# Altium footprint library pcb_mk32_dsd_2022-03-23.PcbLib: 35 footprints (part 1 of 3)
Each footprint in its own frame and in the unit in brackets; x right, y up, seen from the top. Pads: shape width x height; smd on the part's side, far side on the other; paste and mask are expansions set on the pad; w line width, h text height; cw(c..) or ccw(c..) is an arc to the next point about the centre after c.
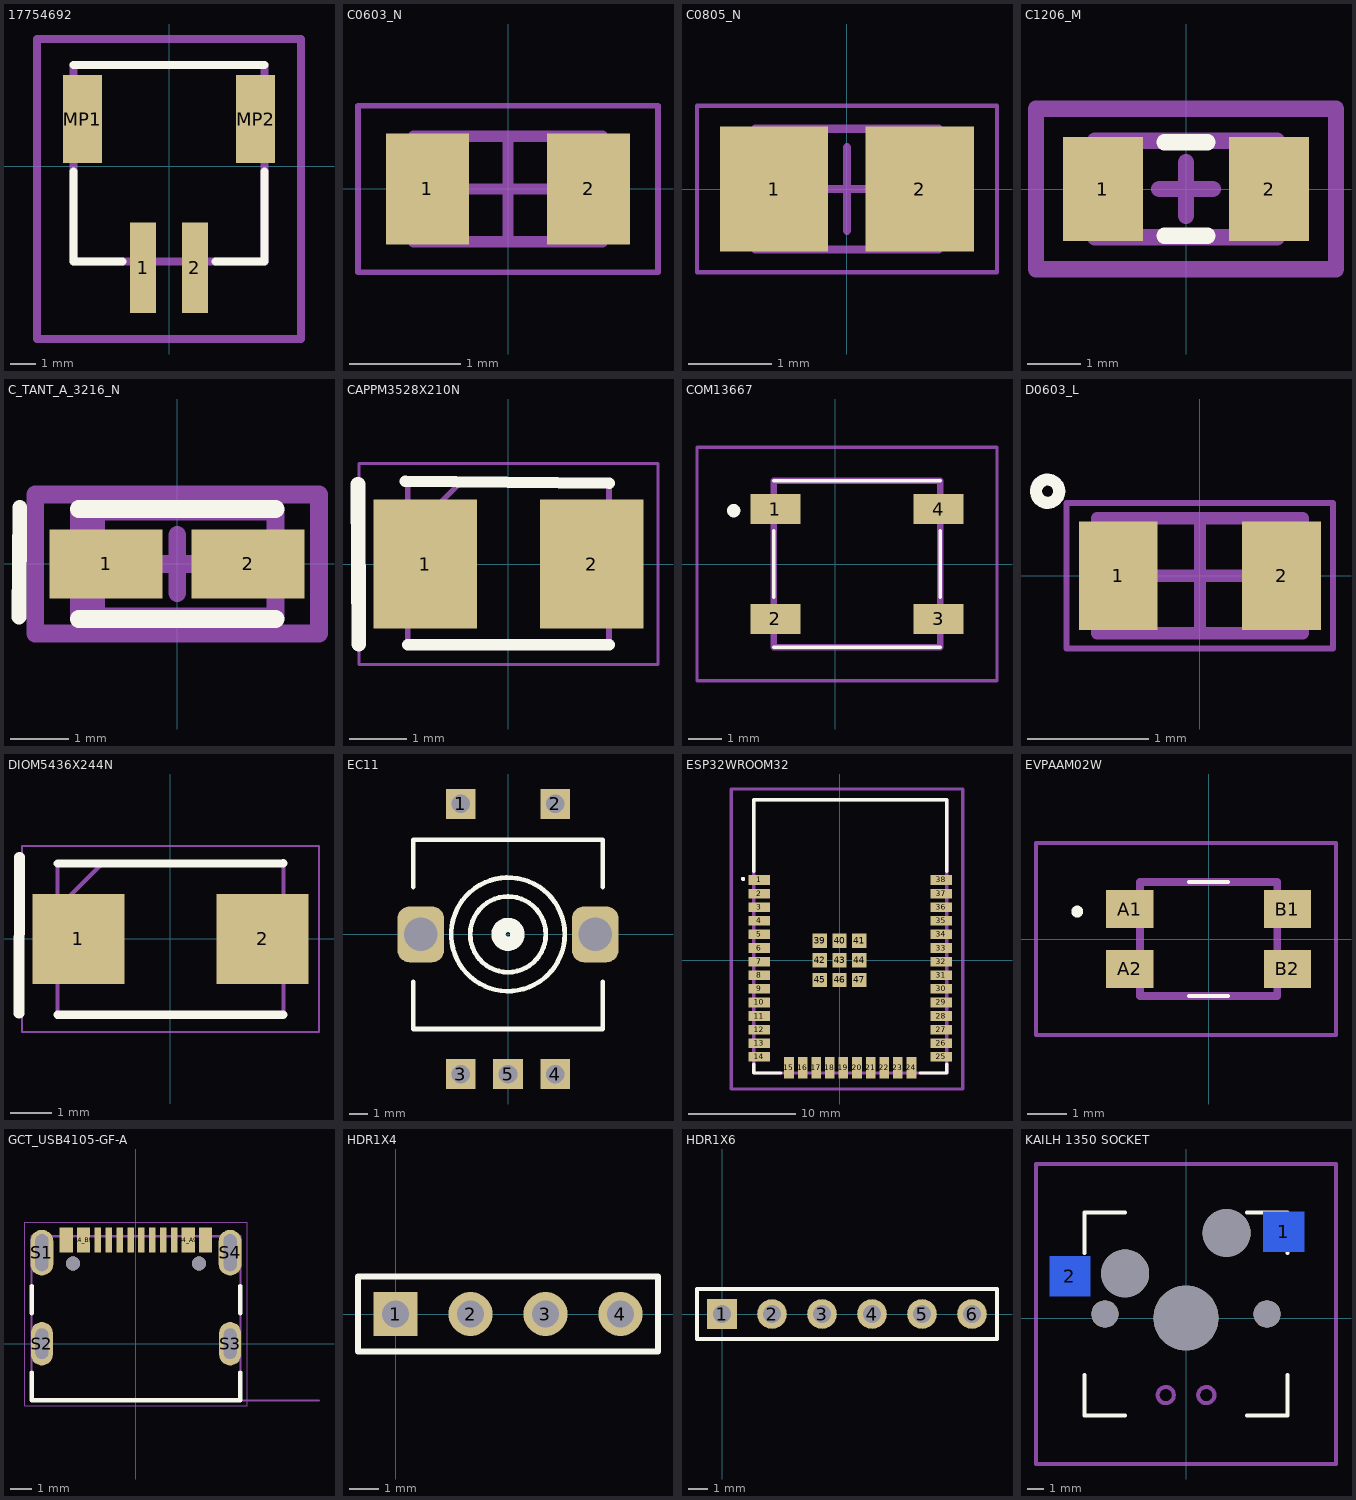
[diagram p0: the footprints below, top view; thin cyan lines are the x and y axes]

## 17754692 [mm]
pads (4):
  rect 1x3.5 smd: 1(-1,-3.925) 2(1,-3.925)
  rect 1.5x3.4 smd: MP1(-3.35,1.825) MP2(3.35,1.825)
Top Overlay:
  lines w0.305: -3.7,-0.2 -3.7,-3.675 -1.8,-3.675 ; -3.7,3.925 3.7,3.925 ; 1.8,-3.675 3.7,-3.675 3.7,-0.2
Mechanical 13:
  lines w0.305: -3.7,-3.675 3.7,-3.675 3.7,3.925 -3.7,3.925 -3.7,-3.675
Mechanical 15:
  lines w0.305: -5.1,-6.675 5.1,-6.675 5.1,4.925 -5.1,4.925 -5.1,-6.675
3D body "1775469-2.stp": height 5.6, standoff 0, extent -3.7,-5.17 3.7,3.43

## C0603_N [mm] "Chip Capacitor, 2-Leads, Body 1.60x0.82mm, IPC Medium Density"
height 0.6
pads (2):
  rect 0.75x1 smd: 1(-0.725,0) 2(0.725,0)
Mechanical 13:
  lines w0.1: -0.85,-0.475 -0.85,0.475 0.85,0.475 0.85,-0.475 -0.85,-0.475
Mechanical 15:
  lines w0.05: -1.35,-0.75 -1.35,0.75 1.35,0.75 1.35,-0.75 -1.35,-0.75
  lines w0.1: -0.475,0 0.475,0 ; 0,-0.475 0,0.475
3D body "C0603N.step": height 0.55, standoff 0, extent -0.875,-0.475 0.875,0.475

## C0805_N [mm] "Chip Capacitor, 2-Leads, Body 2,00x1,25mm, IPC Medium Density"
height 1.1
pads (2):
  rect 1.3x1.5 smd: 1(-0.875,0) 2(0.875,0)
Mechanical 13:
  lines w0.1: -1.1,-0.725 -1.1,0.725 1.1,0.725 1.1,-0.725 -1.1,-0.725
Mechanical 15:
  lines w0.05: -1.8,-1 -1.8,1 1.8,1 1.8,-1 -1.8,-1
  lines w0.1: -0.5,0 0.5,0 ; 0,-0.5 0,0.5
3D body: height 1.1, standoff 0, extent -0.6,-0.725 0.6,0.725
3D body: height 1.1, standoff 0, extent -1.1,-0.725 -0.6,0.725
3D body: height 1.1, standoff 0, extent 0.6,-0.725 1.1,0.725

## C1206_M [mm] "Chip Capacitor, 2-Leads, Body 3,20x1,60mm, IPC Low Density"
height 1.35
pads (2):
  rect 1.5x1.95 smd: 1(-1.55,0) 2(1.55,0)
Top Overlay:
  lines w0.305: -0.4,-0.875 0.4,-0.875 ; -0.4,0.875 0.4,0.875
Mechanical 13:
  lines w0.305: -1.7,-0.9 -1.7,0.9 1.7,0.9 1.7,-0.9 -1.7,-0.9
Mechanical 15:
  lines w0.305: -0.5,0 0.5,0 ; 0,-0.5 0,0.5 ; -2.8,-1.5 -2.8,1.5 2.8,1.5 2.8,-1.5 -2.8,-1.5
3D body: height 1.35, standoff 0, extent -1.2,-0.9 1.2,0.9
3D body: height 1.35, standoff 0, extent -1.7,-0.9 -1.2,0.9
3D body: height 1.35, standoff 0, extent 1.2,-0.9 1.7,0.9

## C_TANT_A_3216_N [mm] "Molded Capacitor, 2-Leads, Body 3,20x1,60mm, IPC Medium Density"
height 1.8
pads (2):
  rect 1.95x1.2 smd: 1(-1.225,0) 2(1.225,0)
Top Overlay:
  lines w0.254: -2.73,-0.914 -2.718,0.978
  lines w0.305: -1.7,-0.95 1.7,-0.95 ; -1.7,0.95 1.7,0.95
Mechanical 13:
  rectangle: -1.7,-0.9 -1.243,0.9
  lines w0.305: -1.7,-0.9 -1.7,0.9 1.7,0.9 1.7,-0.9 -1.7,-0.9
Mechanical 15:
  lines w0.305: -0.5,0 0.5,0 ; 0,-0.5 0,0.5 ; -2.45,-1.2 -2.45,1.2 2.45,1.2 2.45,-1.2 -2.45,-1.2
3D body: height 1.8, standoff 0, extent -1.7,-0.9 1.7,0.9

## CAPPM3528X210N [mm]
pads (2):
  rect 1.8x2.25 smd: 1(-1.45,0) 2(1.45,0)
Top Overlay:
  lines w0.2: -1.791,1.435 1.75,1.4 ; -1.75,-1.4 1.75,-1.4
  lines w0.254: -2.616,1.384 -2.603,-1.397
Mechanical 13:
  lines w0.1: -1.75,0.5 -0.85,1.4 ; -1.75,-1.4 -1.75,1.4 1.75,1.4 1.75,-1.4 -1.75,-1.4
Mechanical 15:
  lines w0.05: -2.6,-1.75 -2.6,1.75 2.6,1.75 2.6,-1.75 -2.6,-1.75
3D body "T520B337M006ATE040.stp": height 2.11, standoff 0.01, extent -1.834,-1.5 1.866,1.5

## COM13667 [mm]
pads (4):
  rect 1.5x0.9 smd: 1(-1.8,1.65) 2(-1.8,-1.65) 3(3.1,-1.65) 4(3.1,1.65)
Top Overlay:
  lines w0.1: -1.85,-2.5 3.15,-2.5 ; -1.85,-1 -1.85,1 ; -1.85,2.5 3.15,2.5 ; 3.15,-1 3.15,1
  lines w0.2: -3.05,1.5 cw(c-3.05,1.6) -3.05,1.7 cw(c-3.05,1.6) -3.05,1.5
Mechanical 13:
  lines w0.2: -1.85,-2.5 3.15,-2.5 3.15,2.5 -1.85,2.5 -1.85,-2.5
Mechanical 15:
  lines w0.1: -4.15,-3.5 4.85,-3.5 4.85,3.5 -4.15,3.5 -4.15,-3.5
3D body "COM-13667.stp": height 2.65, standoff 0, extent -2.6,-2.5 3.8,2.5

## D0603_L [mm] "Chip Diode, 2-Leads, Body 1.60x0.82mm, IPC High Density"
height 0.6
pads (2):
  rect 0.65x0.9 smd: 1(-0.675,0) 2(0.675,0)
Top Overlay:
  circle w0.1: c-1.257,0.699 r0.096
Mechanical 13:
  lines w0.1: -0.85,-0.475 -0.85,0.475 0.85,0.475 0.85,-0.475 -0.85,-0.475
Mechanical 15:
  lines w0.05: -1.1,-0.6 -1.1,0.6 1.1,0.6 1.1,-0.6 -1.1,-0.6
  lines w0.1: -0.475,0 0.475,0 ; 0,-0.475 0,0.475
3D body "D0603_L.step": height 0.6, standoff 0, extent -0.85,-0.475 0.85,0.475

## DIOM5436X244N [mm]
pads (2):
  rect 2.2x2.15 smd: 1(-2.2,0) 2(2.2,0)
Top Overlay:
  lines w0.2: -2.7,-1.81 2.7,-1.81 ; -2.692,1.803 2.7,1.81
  lines w0.254: -3.619,-1.778 -3.607,1.956
Mechanical 13:
  lines w0.1: -2.7,0.735 -1.625,1.81 ; -2.7,-1.81 -2.7,1.81 2.7,1.81 2.7,-1.81 -2.7,-1.81
Mechanical 15:
  lines w0.05: -3.55,-2.22 -3.55,2.22 3.55,2.22 3.55,-2.22 -3.55,-2.22
3D body "SSB44-M3_5BT.stp": height 2.44, standoff 0, extent -2.7,-1.81 2.7,1.81

## EC11 [mm]
pads (7):
  rect 1.6x1.6 hole 1: 1(-2.54,7) 2(2.54,7) 3(-2.54,-7.5) 4(2.54,-7.5) 5(0,-7.5)
  rrect50% 2.5x3 hole 1.8 square: ""(-4.68,0) ""(4.68,0)
Top Overlay:
  circle w0.762: c0,0 r0.508
  circle w0.254: c0,0 r2.032
  circle w0.254: c0,0 r3.048
  lines w0.254: -5.08,-2.54 -5.08,-5.08 5.08,-5.08 5.08,-2.54 ; -5.08,2.54 -5.08,5.08 5.08,5.08 5.08,2.54
3D body "EC11_Rotary_Encoder_Switched.step": height 26.65, standoff -3.43, extent -6.55,-7.905 6.55,7.355

## ESP32WROOM32 [mm]
pads (47):
  rect 2x0.9 smd: 1(-7.5,7.5) 2(-7.5,6.23) 3(-7.5,4.96) 4(-7.5,3.69) 5(-7.5,2.42) 6(-7.5,1.15) 7(-7.5,-0.12) 8(-7.5,-1.39) 9(-7.5,-2.66) 10(-7.5,-3.93) 11(-7.5,-5.2) 12(-7.5,-6.47) 13(-7.5,-7.74) 14(-7.5,-9.01) 25(9.5,-9.01) 26(9.5,-7.74) 27(9.5,-6.47) 28(9.5,-5.2) 29(9.5,-3.93) 30(9.5,-2.66) 31(9.5,-1.39) 32(9.5,-0.12) 33(9.5,1.15) 34(9.5,2.42) 35(9.5,3.69) 36(9.5,4.96) 37(9.5,6.23) 38(9.5,7.5)
  rect 0.9x2 smd: 15(-4.715,-10.01) 16(-3.445,-10.01) 17(-2.175,-10.01) 18(-0.905,-10.01) 19(0.365,-10.01) 20(1.635,-10.01) 21(2.905,-10.01) 22(4.175,-10.01) 23(5.445,-10.01) 24(6.715,-10.01)
  rect 1.33x1.33 smd: 39(-1.835,1.835) 41(1.835,1.835) 42(-1.835,0) 43(0,0) 44(1.835,0) 45(-1.835,-1.835) 46(0,-1.835) 47(1.835,-1.835)
  rect 1.33x1.33 smd mask-5: 40(0,1.835)
Top Overlay:
  lines w0.2: -9,7.5 ccw(c-9,7.6) -9,7.7 ccw(c-9,7.6) -9,7.5
  lines w0.305: -8,-9.71 -8,-10.51 -5.465,-10.51 ; -8,8.29 -8,14.99 10,14.99 10,8.29 ; 7.535,-10.51 10,-10.51 10,-9.71
Mechanical 13:
  lines w0.305: -8,-10.51 -8,14.99 10,14.99 10,-10.51 -8,-10.51
Mechanical 15:
  lines w0.305: -10.1,-12.01 -10.1,15.99 11.5,15.99 11.5,-12.01 -10.1,-12.01
3D body "ESP32_WROOM32.stp": height 3.15, standoff 0.05, extent -8,-10.5 10,15

## EVPAAM02W [mm]
pads (4):
  rect 1.2x0.97 smd: A1(-2.01,0.76) A2(-2.01,-0.76) B1(2.01,0.76) B2(2.01,-0.76)
Top Overlay:
  lines w0.1: -0.5,-1.45 0.5,-1.45 -0.5,-1.45 ; -0.5,1.45 0.5,1.45 -0.5,1.45
  lines w0.2: -3.4,0.7 ccw(c-3.35,0.7) -3.3,0.7 ; -3.4,0.7 cw(c-3.35,0.7) -3.3,0.7 ; -3.4,0.7 ccw(c-3.35,0.7) -3.3,0.7
Mechanical 13:
  lines w0.2: -1.75,-1.45 -1.75,1.45 1.75,1.45 1.75,-1.45 -1.75,-1.45
Mechanical 15:
  lines w0.1: -4.4,-2.45 -4.4,2.45 3.25,2.45 3.25,-2.45 -4.4,-2.45
3D body "EVP-AAM02W.stp": height 2, standoff 0, extent -2.145,-1.45 2.145,1.45

## GCT_USB4105-GF-A [mm]
pads (18):
  rect 0.6x1.15 smd: A1_B12(-3.2,4.755) A4_B9(-2.4,4.755) B1_A12(3.2,4.755) B4_A9(2.4,4.755)
  rect 0.3x1.15 smd: A5(-1.25,4.755) A6(-0.25,4.755) A7(0.25,4.755) A8(1.25,4.755) B5(1.75,4.755) B6(0.75,4.755) B7(-0.75,4.755) B8(-1.75,4.755)
  oval 1.05x2.1 hole 0.6 slot 1.7 at 90 deg: S1(-4.32,4.18) S4(4.32,4.18)
  oval 1x2 hole 0.6 slot 1.4 at 90 deg: S2(-4.32,0) S3(4.32,0)
  round 0.65 hole 0.65 unplated: ""(-2.89,3.68) ""(2.89,3.68)
Top Overlay:
  lines w0.2: -4.79,-1.32 -4.79,-2.6 4.79,-2.6 4.79,-1.32 ; -4.79,1.4 -4.79,2.65 ; 4.79,1.4 4.79,2.65
Mechanical 13:
  lines w0.1: 4.8,-2.6 8.4,-2.6 ; -4.79,-2.6 -4.79,4.93 4.79,4.93 4.79,-2.6 -4.79,-2.6
  text "PCB EDGE" at 5.4,-2.5 h0.41
Mechanical 15:
  lines w0.05: -5.1,-2.85 5.1,-2.85 5.1,5.58 -5.1,5.58 -5.1,-2.85
3D body "step_temp.STEP": height 3.31, standoff -0.85, extent -4.79,-2.6 4.79,5.11

## HDR1X4 [mm] "Connector; Header; 4 Position"
pads (4):
  rect 1.5x1.5 hole 0.9: 1(0,0)
  round 1.5 hole 0.9: 2(2.54,0) 3(5.08,0) 4(7.62,0)
Top Overlay:
  lines w0.2: -1.27,-1.27 8.89,-1.27 8.89,1.27 -1.27,1.27 -1.27,-1.27

## HDR1X6 [mm] "Connector; Header; 6 Position"
pads (6):
  rect 1.5x1.5 hole 0.9: 1(0,0)
  round 1.5 hole 0.9: 2(2.54,0) 3(5.08,0) 4(7.62,0) 5(10.16,0) 6(12.7,0)
Top Overlay:
  lines w0.2: -1.27,-1.27 13.97,-1.27 13.97,1.27 -1.27,1.27 -1.27,-1.27

## KAILH 1350 SOCKET [mil]
pads (7):
  rect 100.39x98.43 smd far side: 1(241.02,212.87) 2(-286.14,102.64)
  round 67 hole 67 unplated: ""(-200,10) ""(200,10)
  round 118.11 hole 118.11 unplated: ""(-150,110) ""(100,210)
  round 160 hole 160 unplated: ""(0,0)
Top Overlay:
  lines w10: -250,-140 -250,-240 -150,-240 ; -250,160 -250,260 -150,260 ; 150,-240 250,-240 250,-140 ; 250,260 250,160 250,260 ; 250,260 150,260 250,260
Mechanical 15:
  circle w10: c-50,-190 r20
  circle w10: c50,-190 r20
  lines w10: -370,-360 370,-360 370,380 0,380 -370,380 -370,-360
3D body "asm_mx_asm_PCB.stp": height 621.44, standoff -110.85, extent -304.17,-302.08 310,312.09
3D body "step_temp.STEP": height 29.53, standoff -92.52, extent -309.37,44.17 261.5,276.06
3D body "MX keycap.STEP": height 730.48, standoff 287.4, extent -354.25,-349.72 354.41,358.94